# EAGLE library part 6HEADER (library ISS-Notify)
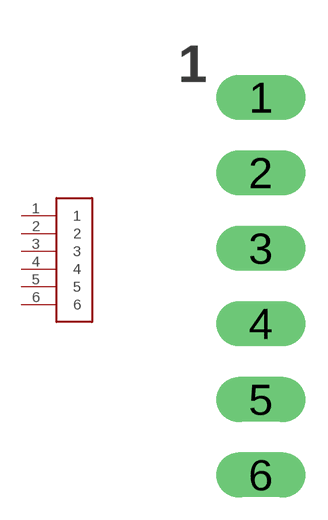
[diagram p6: symbol with the pads of 6HEAD; footprint 6HEAD]

Designator prefix J

## 6HEADER  [6HEAD]
1  1
2  2
3  3
4  4
5  5
6  6

## Footprint 6HEAD (pad centres in mm)
drill 1 long: 1 0,6.35; 2 0,3.81; 3 0,1.27; 4 0,-1.27; 5 0,-3.81; 6 0,-6.35